# Altium schematic symbol library N-Channel FET.SchLib: 448 symbols (part 4 of 8)
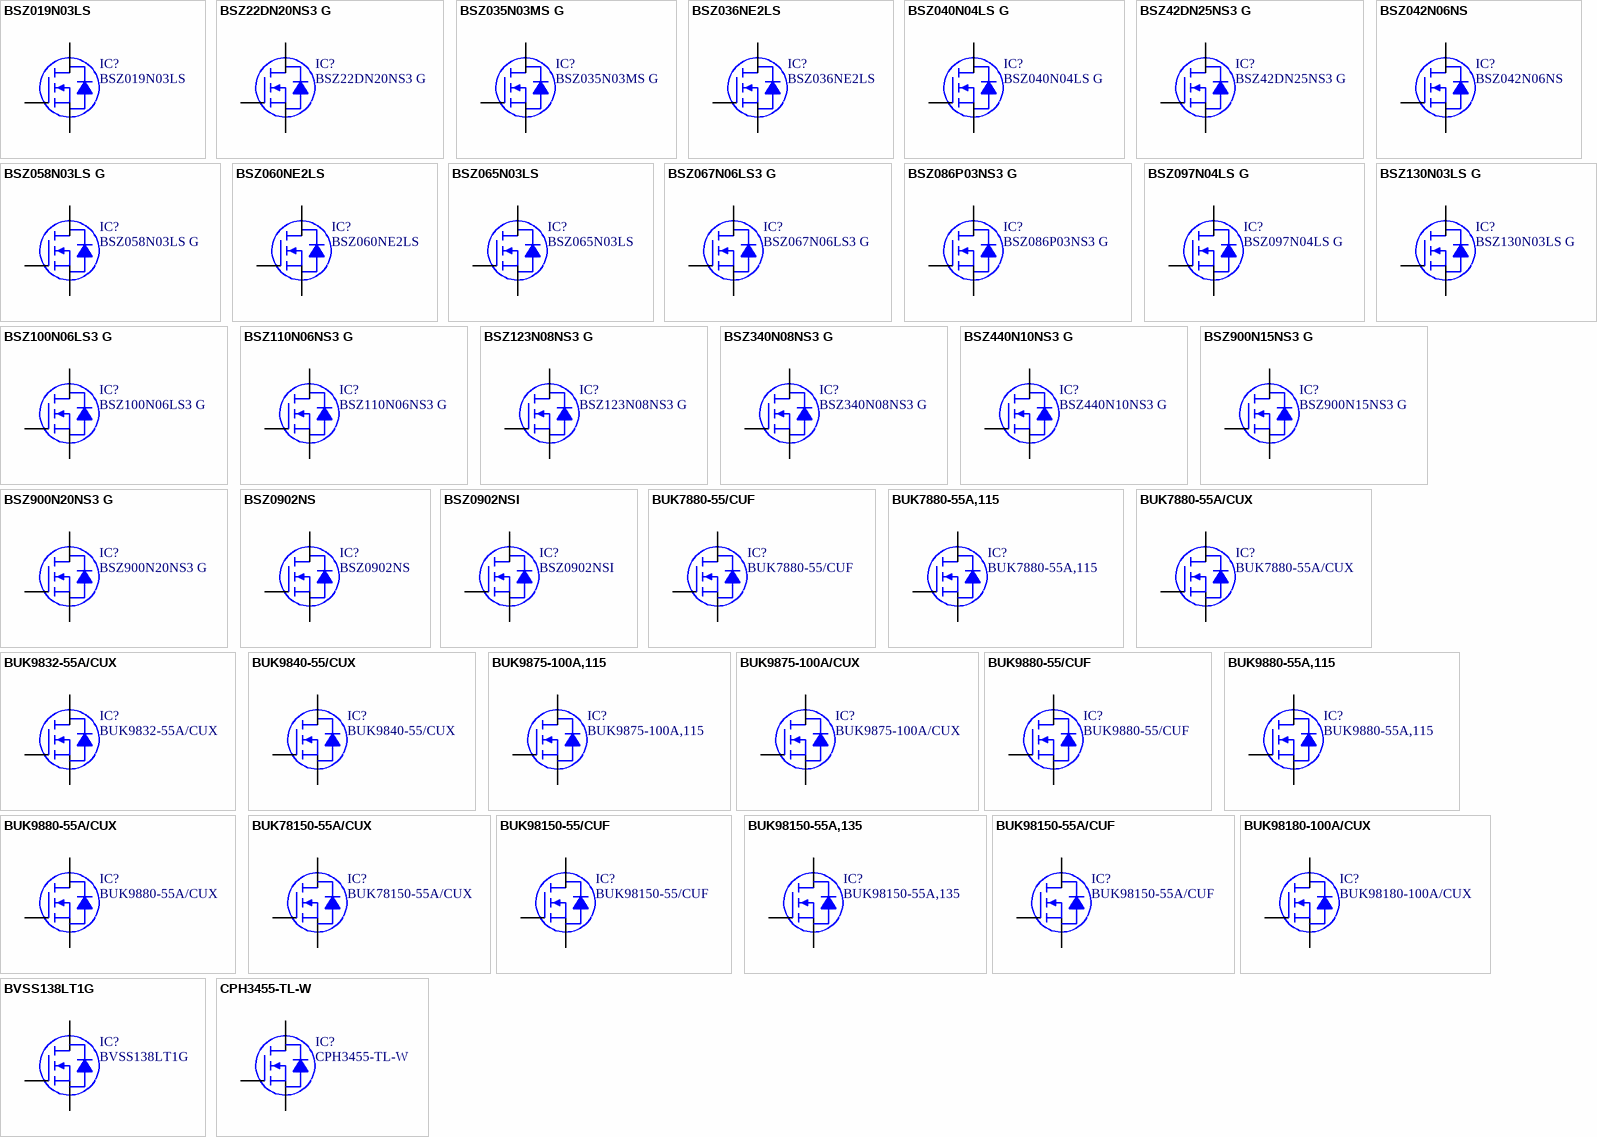
[diagram p14: symbols BSZ019N03LS to CPH3455-TL-W]

## BSZ22DN20NS3 G
designator IC?
MOSFET N-CH 200V 7A 8TSDSON; Manufacturer: Infineon Technologies; Rds On (Max) at Id, Vgs: 225 mOhm @ 3.5A, 10V; Vgs(th) (Max) at Id: 4V @ 13uA; Gate Charge (Qg): 5.6nC @ 10V; Input Capacitance (Ciss) at Vds: 430pF @ 100V; Power - Max: 34W; Current Continuous Drain: 7A (Tc); Part Number: BSZ22DN20NS3 G; PartId: 8122; Supplier 1: Digi-Key; Supplier Part Number 1: BSZ22DN20NS3GTR-ND; ComponentLink1Description: Datasheet; ComponentLink1URL: http://www.infineon.com/dgdl/BSZ22DN20NS3+Rev2.2.pdf?folderId=db3a304325305e6d012596c6ca7b290a&fileId=db3a30432ad629a6012b15ceb1741a7c; ComponentLink2Description: Digi-Key Listing; ComponentLink2URL: http://www.digikey.com/product-detail/en/BSZ22DN20NS3%20G/BSZ22DN20NS3GTR-ND/2527826; Price: 0.4089; Type: MOSFET N-Channel, Metal Oxide; Device Package: 8-PowerTDFN; Drain to Source Voltage (Vdss): 200V; Features: Standard
footprint INFINEON PG-TSDSON-8
pins: 1 S, 2 S, 3 S, 4 G, 5 D, 6 D, 7 D, 8 D

## BSZ035N03MS G
designator IC?
MOSFET N-CH 30V 40A TSDSON-8; Manufacturer: Infineon Technologies; Rds On (Max) at Id, Vgs: 3.5 mOhm @ 20A, 10V; Vgs(th) (Max) at Id: 2V @ 250uA; Gate Charge (Qg): 74nC @ 10V; Input Capacitance (Ciss) at Vds: 5700pF @ 15V; Power - Max: 69W; Current Continuous Drain: 18A (Ta), 40A (Tc); Part Number: BSZ035N03MS G; PartId: 8105; Supplier 1: Digi-Key; Supplier Part Number 1: BSZ035N03MSGINTR-ND; ComponentLink1Description: Datasheet; ComponentLink1URL: http://www.infineon.com/dgdl/BSZ035N03MSG_rev1.4.pdf?folderId=db3a304313d846880113d91d60c500c4&fileId=db3a304313d846880113ddeb998f02e7; ComponentLink2Description: Digi-Key Listing; ComponentLink2URL: http://www.digikey.com/product-detail/en/BSZ035N03MS%20G/BSZ035N03MSGINTR-ND/1785581; Price: 0.3335; Type: MOSFET N-Channel, Metal Oxide; Device Package: 8-PowerTDFN; Drain to Source Voltage (Vdss): 30V; Features: Standard
footprint INFINEON PG-TSDSON-8
pins: 1 S, 2 S, 3 S, 4 G, 5 D, 6 D, 7 D, 8 D

## BSZ036NE2LS
designator IC?
MOSFET N-CH 25V 16A TSDSON-8; Manufacturer: Infineon Technologies; Rds On (Max) at Id, Vgs: 3.6 mOhm @ 20A, 10V; Vgs(th) (Max) at Id: 2V @ 250uA; Gate Charge (Qg): 16nC @ 10V; Input Capacitance (Ciss) at Vds: 1200pF @ 12V; Power - Max: 2.1W; Current Continuous Drain: 16A (Ta), 40A (Tc); Part Number: BSZ036NE2LS; PartId: 8106; Supplier 1: Digi-Key; Supplier Part Number 1: BSZ036NE2LSTR-ND; ComponentLink1Description: Datasheet; ComponentLink1URL: http://www.infineon.com/dgdl/BSZ036NE2LS_Rev+2.1.pdf?folderId=db3a304313b8b5a60113cee8763b02d7&fileId=db3a30432ea425a4012ed92706043869; ComponentLink2Description: Digi-Key Listing; ComponentLink2URL: http://www.digikey.com/product-detail/en/BSZ036NE2LS/BSZ036NE2LSTR-ND/2783242; Price: 0.27; Type: MOSFET N-Channel, Metal Oxide; Device Package: 8-PowerTDFN; Drain to Source Voltage (Vdss): 25V; Features: Standard
footprint INFINEON PG-TSDSON-8
pins: 1 S, 2 S, 3 S, 4 G, 5 D, 6 D, 7 D, 8 D

## BSZ040N04LS G
designator IC?
MOSFET N-CH 40V 40A TSDSON-8; Manufacturer: Infineon Technologies; Rds On (Max) at Id, Vgs: 4 mOhm @ 20A, 10V; Vgs(th) (Max) at Id: 2V @ 36uA; Gate Charge (Qg): 64nC @ 10V; Input Capacitance (Ciss) at Vds: 5100pF @ 20V; Power - Max: 69W; Current Continuous Drain: 18A (Ta), 40A (Tc); Part Number: BSZ040N04LS G; PartId: 8107; Supplier 1: Digi-Key; Supplier Part Number 1: BSZ040N04LSGINTR-ND; ComponentLink1Description: Datasheet; ComponentLink1URL: http://www.infineon.com/dgdl/BSZ040N04LSG_rev1.3.pdf?folderId=db3a3043163797a6011643468e7505a4&fileId=db3a3043163797a6011643b9e30f067b; ComponentLink2Description: Digi-Key Listing; ComponentLink2URL: http://www.digikey.com/product-detail/en/BSZ040N04LS%20G/BSZ040N04LSGINTR-ND/1936386; Price: 0.375; Type: MOSFET N-Channel, Metal Oxide; Device Package: 8-PowerTDFN; Drain to Source Voltage (Vdss): 40V; Features: Logic Level Gate
footprint INFINEON PG-TSDSON-8
pins: 1 S, 2 S, 3 S, 4 G, 5 D, 6 D, 7 D, 8 D

## BSZ42DN25NS3 G
designator IC?
MOSFET N-CH 250V 5A TSDSON-8; Manufacturer: Infineon Technologies; Rds On (Max) at Id, Vgs: 425 mOhm @ 2.5A, 10V; Vgs(th) (Max) at Id: 4V @ 13uA; Gate Charge (Qg): 5.5nC @ 10V; Input Capacitance (Ciss) at Vds: 430pF @ 100V; Power - Max: 33.8W; Current Continuous Drain: 5A (Tc); Part Number: BSZ42DN25NS3 G; PartId: 8124; Supplier 1: Digi-Key; Supplier Part Number 1: BSZ42DN25NS3 GTR-ND; ComponentLink1Description: Datasheet; ComponentLink1URL: http://www.infineon.com/dgdl/BSZ42DN25NS3+Rev2.2.pdf?folderId=db3a304325305e6d012596c6ca7b290a&fileId=db3a30432ad629a6012b15e5a93b1a8b; ComponentLink2Description: Digi-Key Listing; ComponentLink2URL: http://www.digikey.com/product-detail/en/BSZ42DN25NS3%20G/BSZ42DN25NS3%20GTR-ND/2783248; Price: 0.4089; Type: MOSFET N-Channel, Metal Oxide; Device Package: 8-PowerTDFN; Drain to Source Voltage (Vdss): 250V; Features: Standard
footprint INFINEON PG-TSDSON-8
pins: 1 S, 2 S, 3 S, 4 G, 5 D, 6 D, 7 D, 8 D

## BSZ042N06NS
designator IC?
MOSFET N-CH 60V 19A 8TSDSON; Manufacturer: Infineon Technologies; Rds On (Max) at Id, Vgs: 4.2 mOhm @ 20A, 10V; Vgs(th) (Max) at Id: 2.8V @ 36uA; Gate Charge (Qg): 27nC @ 10V; Input Capacitance (Ciss) at Vds: 2000pF @ 30V; Power - Max: 2.1W; Current Continuous Drain: 17A (Ta), 40A (Tc); Part Number: BSZ042N06NS; PartId: 8108; Supplier 1: Digi-Key; Supplier Part Number 1: BSZ042N06NSTR-ND; ComponentLink1Description: Datasheet; ComponentLink1URL: http://www.infineon.com/dgdl/BSZ042N06NS_Rev2.0.pdf?folderId=db3a30431ddc9372011ebafa04517f8b&fileId=db3a3043345a30bc013465d4bf1862fd; ComponentLink2Description: Digi-Key Listing; ComponentLink2URL: http://www.digikey.com/product-detail/en/BSZ042N06NS/BSZ042N06NSTR-ND/3720147; Price: 0.6183; Type: MOSFET N-Channel, Metal Oxide; Device Package: 8-PowerTDFN; Drain to Source Voltage (Vdss): 60V; Features: Standard
footprint INFINEON PG-TSDSON-8
pins: 1 S, 2 S, 3 S, 4 G, 5 D, 6 D, 7 D, 8 D

## BSZ058N03LS G
designator IC?
MOSFET N-CH 30V 40A TSDSON-8; Manufacturer: Infineon Technologies; Rds On (Max) at Id, Vgs: 5.8 mOhm @ 20A, 10V; Vgs(th) (Max) at Id: 2.2V @ 250uA; Gate Charge (Qg): 30nC @ 10V; Input Capacitance (Ciss) at Vds: 2400pF @ 15V; Power - Max: 45W; Current Continuous Drain: 15A (Ta), 40A (Tc); Part Number: BSZ058N03LS G; PartId: 8109; Supplier 1: Digi-Key; Supplier Part Number 1: BSZ058N03LSGINTR-ND; ComponentLink1Description: Datasheet; ComponentLink1URL: http://www.infineon.com/dgdl/BSZ058N03LSG_rev1.1.pdf?folderId=db3a304313b8b5a60113cee8ed2a02db&fileId=db3a304313b8b5a60113d3fa0a7e03f2; ComponentLink2Description: Digi-Key Listing; ComponentLink2URL: http://www.digikey.com/product-detail/en/BSZ058N03LS%20G/BSZ058N03LSGINTR-ND/1785584; Price: 0.243; Type: MOSFET N-Channel, Metal Oxide; Device Package: 8-PowerTDFN; Drain to Source Voltage (Vdss): 30V; Features: Logic Level Gate
footprint INFINEON PG-TSDSON-8
pins: 1 S, 2 S, 3 S, 4 G, 5 D, 6 D, 7 D, 8 D

## BSZ060NE2LS
designator IC?
MOSFET N-CH 25V 12A TSDSON-8; Manufacturer: Infineon Technologies; Rds On (Max) at Id, Vgs: 6 mOhm @ 20A, 10V; Vgs(th) (Max) at Id: 2V @ 250uA; Gate Charge (Qg): 9.1nC @ 10V; Input Capacitance (Ciss) at Vds: 670pF @ 12V; Power - Max: 2.1W; Current Continuous Drain: 12A (Ta), 40A (Tc); Part Number: BSZ060NE2LS; PartId: 8110; Supplier 1: Digi-Key; Supplier Part Number 1: BSZ060NE2LSTR-ND; ComponentLink1Description: Datasheet; ComponentLink1URL: http://www.infineon.com/dgdl/BSZ060NE2LS_Rev+2.1.pdf?folderId=db3a304313b8b5a60113cee8763b02d7&fileId=db3a30432ea425a4012ec927cb360e1f; ComponentLink2Description: Digi-Key Listing; ComponentLink2URL: http://www.digikey.com/product-detail/en/BSZ060NE2LS/BSZ060NE2LSTR-ND/2783243; Price: 0.2092; Type: MOSFET N-Channel, Metal Oxide; Device Package: 8-PowerTDFN; Drain to Source Voltage (Vdss): 25V; Features: Standard
footprint INFINEON PG-TSDSON-8
pins: 1 S, 2 S, 3 S, 4 G, 5 D, 6 D, 7 D, 8 D

## BSZ065N03LS
designator IC?
MOSFET N-CH 30V 12A TSDSON-8; Manufacturer: Infineon Technologies; Rds On (Max) at Id, Vgs: 6.5 mOhm @ 20A, 10V; Vgs(th) (Max) at Id: 2V @ 250uA; Gate Charge (Qg): 10nC @ 10V; Input Capacitance (Ciss) at Vds: 670pF @ 15V; Power - Max: 2.1W; Current Continuous Drain: 12A (Ta), 40A (Tc); Part Number: BSZ065N03LS; PartId: 8111; Supplier 1: Digi-Key; Supplier Part Number 1: BSZ065N03LSTR-ND; ComponentLink1Description: Datasheet; ComponentLink1URL: http://www.infineon.com/dgdl/BSZ065N03LS_Rev2.1_.pdf?folderId=db3a304313b8b5a60113cee8763b02d7&fileId=db3a30432ea425a4012ed7fbc0b23834; ComponentLink2Description: Digi-Key Listing; ComponentLink2URL: http://www.digikey.com/product-detail/en/BSZ065N03LS/BSZ065N03LSTR-ND/2783244; Price: 0.216; Type: MOSFET N-Channel, Metal Oxide; Device Package: 8-PowerTDFN; Drain to Source Voltage (Vdss): 30V; Features: Standard
footprint INFINEON PG-TSDSON-8
pins: 1 S, 2 S, 3 S, 4 G, 5 D, 6 D, 7 D, 8 D

## BSZ067N06LS3 G
designator IC?
MOSFET N-CH 60V 20A TSDSON-8; Manufacturer: Infineon Technologies; Rds On (Max) at Id, Vgs: 6.7 mOhm @ 20A, 10V; Vgs(th) (Max) at Id: 2.2V @ 35uA; Gate Charge (Qg): 67nC @ 10V; Input Capacitance (Ciss) at Vds: 5100pF @ 30V; Power - Max: 69W; Current Continuous Drain: 14A (Ta), 20A (Tc); Part Number: BSZ067N06LS3 G; PartId: 8112; Supplier 1: Digi-Key; Supplier Part Number 1: BSZ067N06LS3GINTR-ND; ComponentLink1Description: Datasheet; ComponentLink1URL: http://www.infineon.com/dgdl/BSZ067N06LS3_rev2.0.pdf?folderId=db3a30431ddc9372011ebafa04517f8b&fileId=db3a30431ddc9372011ebb0f41537ff6; ComponentLink2Description: Digi-Key Listing; ComponentLink2URL: http://www.digikey.com/product-detail/en/BSZ067N06LS3%20G/BSZ067N06LS3GINTR-ND/1980817; Price: 0.3978; Type: MOSFET N-Channel, Metal Oxide; Device Package: 8-PowerVDFN; Drain to Source Voltage (Vdss): 60V; Features: Logic Level Gate
footprint INFINEON PG-TSDSON-8
pins: 1 S, 2 S, 3 S, 4 G, 5 D, 6 D, 7 D, 8 D

## BSZ086P03NS3 G
designator IC?
MOSFET P-CH 30V 40A TSDSON-8; Manufacturer: Infineon Technologies; Rds On (Max) at Id, Vgs: 8.6 mOhm @ 20A, 10V; Vgs(th) (Max) at Id: 1.9V @ 105uA; Gate Charge (Qg): 57.5nC @ 10V; Input Capacitance (Ciss) at Vds: 4785pF @ 15V; Power - Max: 69W; Current Continuous Drain: 13.5A (Ta), 40A (Tc); Part Number: BSZ086P03NS3 G; PartId: 8113; Supplier 1: Digi-Key; Supplier Part Number 1: BSZ086P03NS3 GTR-ND; ComponentLink1Description: Datasheet; ComponentLink1URL: http://www.infineon.com/dgdl/BSZ086P03NS3+G_2.0.pdf?folderId=db3a304314dca38901154a7313d21a66&fileId=db3a30431ff9881501203d3a5e7d17a9; ComponentLink2Description: Digi-Key Listing; ComponentLink2URL: http://www.digikey.com/product-detail/en/BSZ086P03NS3%20G/BSZ086P03NS3%20GTR-ND/2080736; Price: 0.3001; Type: MOSFET P-Channel, Metal Oxide; Device Package: 8-PowerTDFN; Drain to Source Voltage (Vdss): 30V; Features: Standard
footprint INFINEON PG-TSDSON-8
pins: 1 S, 2 S, 3 S, 4 G, 5 D, 6 D, 7 D, 8 D

## BSZ097N04LS G
designator IC?
MOSFET N-CH 40V 40A TSDSON-8; Manufacturer: Infineon Technologies; Rds On (Max) at Id, Vgs: 9.7 mOhm @ 20A, 10V; Vgs(th) (Max) at Id: 2V @ 14uA; Gate Charge (Qg): 24nC @ 10V; Input Capacitance (Ciss) at Vds: 1900pF @ 20V; Power - Max: 35W; Current Continuous Drain: 12A (Ta), 40A (Tc); Part Number: BSZ097N04LS G; PartId: 8116; Supplier 1: Digi-Key; Supplier Part Number 1: BSZ097N04LSGINTR-ND; ComponentLink1Description: Datasheet; ComponentLink1URL: http://www.infineon.com/dgdl/BSZ097N04LSG_rev1.1.pdf?folderId=db3a3043163797a6011643468e7505a4&fileId=db3a3043163797a6011643be1d53068c; ComponentLink2Description: Digi-Key Listing; ComponentLink2URL: http://www.digikey.com/product-detail/en/BSZ097N04LS%20G/BSZ097N04LSGINTR-ND/1936387; Price: 0.216; Type: MOSFET N-Channel, Metal Oxide; Device Package: 8-PowerTDFN; Drain to Source Voltage (Vdss): 40V; Features: Logic Level Gate
footprint INFINEON PG-TSDSON-8
pins: 1 S, 2 S, 3 S, 4 G, 5 D, 6 D, 7 D, 8 D

## BSZ100N06LS3 G
designator IC?
MOSFET N-CH 60V 20A TSDSON-8; Manufacturer: Infineon Technologies; Rds On (Max) at Id, Vgs: 10 mOhm @ 20A, 10V; Vgs(th) (Max) at Id: 2.2V @ 23uA; Gate Charge (Qg): 45nC @ 10V; Input Capacitance (Ciss) at Vds: 3500pF @ 30V; Power - Max: 50W; Current Continuous Drain: 11A (Ta), 20A (Tc); Part Number: BSZ100N06LS3 G; PartId: 8117; Supplier 1: Digi-Key; Supplier Part Number 1: BSZ100N06LS3GINTR-ND; ComponentLink1Description: Datasheet; ComponentLink1URL: http://www.infineon.com/dgdl/BSZ100N06LS3_rev2.0.pdf?folderId=db3a30431ddc9372011ebafa04517f8b&fileId=db3a30431ddc9372011ebb132c97000a; ComponentLink2Description: Digi-Key Listing; ComponentLink2URL: http://www.digikey.com/product-detail/en/BSZ100N06LS3%20G/BSZ100N06LS3GINTR-ND/1936392; Price: 0.33; Type: MOSFET N-Channel, Metal Oxide; Device Package: 8-PowerVDFN; Drain to Source Voltage (Vdss): 60V; Features: Logic Level Gate
footprint INFINEON PG-TSDSON-8
pins: 1 S, 2 S, 3 S, 4 G, 5 D, 6 D, 7 D, 8 D

## BSZ110N06NS3 G
designator IC?
MOSFET N-CH 60V 20A TSDSON-8; Manufacturer: Infineon Technologies; Rds On (Max) at Id, Vgs: 11 mOhm @ 20A, 10V; Vgs(th) (Max) at Id: 4V @ 23uA; Gate Charge (Qg): 33nC @ 10V; Input Capacitance (Ciss) at Vds: 2700pF @ 30V; Power - Max: 50W; Current Continuous Drain: 20A (Tc); Part Number: BSZ110N06NS3 G; PartId: 8118; Supplier 1: Digi-Key; Supplier Part Number 1: BSZ110N06NS3GINTR-ND; ComponentLink1Description: Datasheet; ComponentLink1URL: http://www.infineon.com/dgdl/BSZ110N06NS3_Rev2.0.pdf?folderId=db3a30431ddc9372011ebafa04517f8b&fileId=db3a30431ddc9372011ebb15d4e8001a; ComponentLink2Description: Digi-Key Listing; ComponentLink2URL: http://www.digikey.com/product-detail/en/BSZ110N06NS3%20G/BSZ110N06NS3GINTR-ND/1936394; Price: 0.2295; Type: MOSFET N-Channel, Metal Oxide; Device Package: 8-PowerVDFN; Drain to Source Voltage (Vdss): 60V; Features: Standard
footprint INFINEON PG-TSDSON-8
pins: 1 S, 2 S, 3 S, 4 G, 5 D, 6 D, 7 D, 8 D

## BSZ123N08NS3 G
designator IC?
MOSFET N-CH 80V 40A TSDSON-8; Manufacturer: Infineon Technologies; Rds On (Max) at Id, Vgs: 12.3 mOhm @ 20A, 10V; Vgs(th) (Max) at Id: 3.5V @ 33uA; Gate Charge (Qg): 25nC @ 10V; Input Capacitance (Ciss) at Vds: 1700pF @ 40V; Power - Max: 66W; Current Continuous Drain: 10A (Ta), 40A (Tc); Part Number: BSZ123N08NS3 G; PartId: 8119; Supplier 1: Digi-Key; Supplier Part Number 1: BSZ123N08NS3GINTR-ND; ComponentLink1Description: Datasheet; ComponentLink1URL: http://www.infineon.com/dgdl/BSZ123N08NS3G_rev2.0.pdf?folderId=db3a304313b8b5a60113cee8763b02d7&fileId=db3a30431ddc9372011e5ec96fdc0a00; ComponentLink2Description: Digi-Key Listing; ComponentLink2URL: http://www.digikey.com/product-detail/en/BSZ123N08NS3%20G/BSZ123N08NS3GINTR-ND/1936395; Price: 0.41; Type: MOSFET N-Channel, Metal Oxide; Device Package: 8-PowerVDFN; Drain to Source Voltage (Vdss): 80V; Features: Standard
footprint INFINEON PG-TSDSON-8
pins: 1 S, 2 S, 3 S, 4 G, 5 D, 6 D, 7 D, 8 D

## BSZ130N03LS G
designator IC?
MOSFET N-CH 30V 35A TSDSON-8; Manufacturer: Infineon Technologies; Rds On (Max) at Id, Vgs: 13 mOhm @ 20A, 10V; Vgs(th) (Max) at Id: 2.2V @ 250uA; Gate Charge (Qg): 13nC @ 10V; Input Capacitance (Ciss) at Vds: 970pF @ 15V; Power - Max: 25W; Current Continuous Drain: 10A (Ta), 35A (Tc); Part Number: BSZ130N03LS G; PartId: 8121; Supplier 1: Digi-Key; Supplier Part Number 1: BSZ130N03LSGINTR-ND; ComponentLink1Description: Datasheet; ComponentLink1URL: http://www.infineon.com/dgdl/BSZ130N03LS_rev1.1.pdf?folderId=db3a304313b8b5a60113cee8ed2a02db&fileId=db3a304313b8b5a60113d4035f8203fc; ComponentLink2Description: Digi-Key Listing; ComponentLink2URL: http://www.digikey.com/product-detail/en/BSZ130N03LS%20G/BSZ130N03LSGINTR-ND/1785590; Price: 0.1972; Type: MOSFET N-Channel, Metal Oxide; Device Package: 8-PowerTDFN; Drain to Source Voltage (Vdss): 30V; Features: Logic Level Gate
footprint INFINEON PG-TSDSON-8
pins: 1 S, 2 S, 3 S, 4 G, 5 D, 6 D, 7 D, 8 D

## BSZ340N08NS3 G
designator IC?
MOSFET N-CH 80V 23A TSDSON-8; Manufacturer: Infineon Technologies; Rds On (Max) at Id, Vgs: 34 mOhm @ 12A, 10V; Vgs(th) (Max) at Id: 3.5V @ 12uA; Gate Charge (Qg): 9.1nC @ 10V; Input Capacitance (Ciss) at Vds: 630pF @ 40V; Power - Max: 32W; Current Continuous Drain: 6A (Ta), 23A (Tc); Part Number: BSZ340N08NS3 G; PartId: 8123; Supplier 1: Digi-Key; Supplier Part Number 1: BSZ340N08NS3GINTR-ND; ComponentLink1Description: Datasheet; ComponentLink1URL: http://www.infineon.com/dgdl/Infineon-BSZ340N08NS3G-DS-v02_03-en.pdf?fileId=db3a30431ff9881501206626660b6c72; ComponentLink2Description: Digi-Key Listing; ComponentLink2URL: http://www.digikey.com/product-detail/en/BSZ340N08NS3%20G/BSZ340N08NS3GINTR-ND/1936396; Price: 0.1885; Type: MOSFET N-Channel, Metal Oxide; Device Package: 8-PowerTDFN; Drain to Source Voltage (Vdss): 80V; Features: Standard
footprint INFINEON PG-TSDSON-8
pins: 1 S, 2 S, 3 S, 4 G, 5 D, 6 D, 7 D, 8 D

## BSZ440N10NS3 G
designator IC?
MOSFET N-CH 100V 18A TSDSON-8; Manufacturer: Infineon Technologies; Rds On (Max) at Id, Vgs: 44 mOhm @ 12A, 10V; Vgs(th) (Max) at Id: 2.7V @ 12uA; Gate Charge (Qg): 9.1nC @ 10V; Input Capacitance (Ciss) at Vds: 640pF @ 50V; Power - Max: 29W; Current Continuous Drain: 5.3A (Ta), 18A (Tc); Part Number: BSZ440N10NS3 G; PartId: 8125; Supplier 1: Digi-Key; Supplier Part Number 1: BSZ440N10NS3 GINTR-ND; ComponentLink1Description: Datasheet; ComponentLink1URL: http://www.infineon.com/dgdl/BSZ440N10NS3+Rev1.0.pdf?folderId=db3a304313b8b5a60113cee8763b02d7&fileId=db3a304320896aa20120c32dbf312354; ComponentLink2Description: Digi-Key Listing; ComponentLink2URL: http://www.digikey.com/product-detail/en/BSZ440N10NS3%20G/BSZ440N10NS3%20GINTR-ND/2080739; Price: 0.228; Type: MOSFET N-Channel, Metal Oxide; Device Package: 8-PowerTDFN; Drain to Source Voltage (Vdss): 100V; Features: Standard
footprint INFINEON PG-TSDSON-8
pins: 1 S, 2 S, 3 S, 4 G, 5 D, 6 D, 7 D, 8 D

## BSZ900N15NS3 G
designator IC?
MOSFET N-CH 150V 13A TDSON-8; Manufacturer: Infineon Technologies; Rds On (Max) at Id, Vgs: 90 mOhm @ 10A, 10V; Vgs(th) (Max) at Id: 4V @ 20uA; Gate Charge (Qg): 7nC @ 10V; Input Capacitance (Ciss) at Vds: 510pF @ 75V; Power - Max: 38W; Current Continuous Drain: 13A (Tc); Part Number: BSZ900N15NS3 G; PartId: 8126; Supplier 1: Digi-Key; Supplier Part Number 1: BSZ900N15NS3 GTR-ND; ComponentLink1Description: Datasheet; ComponentLink1URL: http://www.infineon.com/dgdl/BSZ900N15NS3+Rev2.1.pdf?folderId=db3a304326623792012669f6bee2224b&fileId=db3a304326623792012669f7decc224c; ComponentLink2Description: Digi-Key Listing; ComponentLink2URL: http://www.digikey.com/product-detail/en/BSZ900N15NS3%20G/BSZ900N15NS3%20GTR-ND/2337891; Price: 0.3991; Type: MOSFET N-Channel, Metal Oxide; Device Package: 8-PowerTDFN; Drain to Source Voltage (Vdss): 150V; Features: Standard
footprint INFINEON PG-TSDSON-8
pins: 1 S, 2 S, 3 S, 4 G, 5 D, 6 D, 7 D, 8 D

## BSZ900N20NS3 G
designator IC?
MOSFET N-CH 200V 15.2A 8TSDSON; Manufacturer: Infineon Technologies; Rds On (Max) at Id, Vgs: 90 mOhm @ 7.6A, 10V; Vgs(th) (Max) at Id: 4V @ 30uA; Gate Charge (Qg): 11.6nC @ 10V; Input Capacitance (Ciss) at Vds: 920pF @ 100V; Power - Max: 62.5W; Current Continuous Drain: 15.2A (Tc); Part Number: BSZ900N20NS3 G; PartId: 8127; Supplier 1: Digi-Key; Supplier Part Number 1: BSZ900N20NS3GTR-ND; ComponentLink1Description: Datasheet; ComponentLink1URL: http://www.infineon.com/dgdl/BSZ900N20NS3+Rev2.1.pdf?folderId=db3a304325305e6d012596c6ca7b290a&fileId=db3a30432ad629a6012b15f1be561a9b; ComponentLink2Description: Digi-Key Listing; ComponentLink2URL: http://www.digikey.com/product-detail/en/BSZ900N20NS3%20G/BSZ900N20NS3GTR-ND/2527827; Price: 0.6402; Type: MOSFET N-Channel, Metal Oxide; Device Package: 8-PowerTDFN; Drain to Source Voltage (Vdss): 200V; Features: Standard
footprint INFINEON PG-TSDSON-8
pins: 1 S, 2 S, 3 S, 4 G, 5 D, 6 D, 7 D, 8 D

## BSZ0902NS
designator IC?
MOSFET N-CH 30V 40A TSDSON-8; Manufacturer: Infineon Technologies; Rds On (Max) at Id, Vgs: 2.6 mOhm @ 20A, 10V; Vgs(th) (Max) at Id: 2V @ 250uA; Gate Charge (Qg): 26nC @ 10V; Input Capacitance (Ciss) at Vds: 1700pF @ 15V; Power - Max: 2.1W; Current Continuous Drain: 19A (Ta), 40A (Tc); Part Number: BSZ0902NS; PartId: 8114; Supplier 1: Digi-Key; Supplier Part Number 1: BSZ0902NSTR-ND; ComponentLink1Description: Datasheet; ComponentLink1URL: http://www.infineon.com/dgdl/BSZ0902NS_Rev+2.1.pdf?folderId=db3a304313b8b5a60113cee8763b02d7&fileId=db3a30432f0d175c012f25d963971d2f; ComponentLink2Description: Digi-Key Listing; ComponentLink2URL: http://www.digikey.com/product-detail/en/BSZ0902NS/BSZ0902NSTR-ND/2783245; Price: 0.2835; Type: MOSFET N-Channel, Metal Oxide; Device Package: 8-PowerTDFN; Drain to Source Voltage (Vdss): 30V; Features: Standard
footprint INFINEON PG-TSDSON-8
pins: 1 S, 2 S, 3 S, 4 G, 5 D, 6 D, 7 D, 8 D

## BSZ0902NSI
designator IC?
MOSFET N-CH 30V 21A TSDSON-8; Manufacturer: Infineon Technologies; Rds On (Max) at Id, Vgs: 2.8 mOhm @ 30A, 10V; Vgs(th) (Max) at Id: 2V @ 250uA; Gate Charge (Qg): 24nC @ 10V; Input Capacitance (Ciss) at Vds: 1500pF @ 15V; Power - Max: 2.5W; Current Continuous Drain: 21A (Ta), 40A (Tc); Part Number: BSZ0902NSI; PartId: 8115; Supplier 1: Digi-Key; Supplier Part Number 1: BSZ0902NSITR-ND; ComponentLink1Description: Datasheet; ComponentLink1URL: http://www.infineon.com/dgdl/BSZ0902NSI_Rev+2.0.pdf?folderId=db3a304313b8b5a60113cee8763b02d7&fileId=db3a30433072cd8f01308e38cc9c33f9; ComponentLink2Description: Digi-Key Listing; ComponentLink2URL: http://www.digikey.com/product-detail/en/BSZ0902NSI/BSZ0902NSITR-ND/2618250; Price: 0.328; Type: MOSFET N-Channel, Metal Oxide; Device Package: 8-PowerTDFN; Drain to Source Voltage (Vdss): 30V; Features: Standard
footprint INFINEON PG-TSDSON-8
pins: 1 S, 2 S, 3 S, 4 G, 5 D, 6 D, 7 D, 8 D

## BUK7880-55/CUF
designator IC?
MOSFET N-CH 55V 7.5A SOT223; Manufacturer: NXP USA Inc.; Rds On (Max) at Id, Vgs: 80 mOhm @ 5A, 10V; Vgs(th) (Max) at Id: 16V; Input Capacitance (Ciss) at Vds: 500pF @ 25V; Current Continuous Drain: 3.5A (Ta); Part Number: BUK7880-55/CUF; PartId: 29640; Supplier 1: Digi-Key; Supplier Part Number 1: 568-12759-1-ND; ComponentLink1Description: Datasheet; ComponentLink1URL: http://www.nxp.com/documents/data_sheet/BUK7880-55.pdf; ComponentLink2Description: Digi-Key Listing; ComponentLink2URL: https://www.digikey.com/product-detail/en/nxp-usa-inc/BUK7880-55-CUF/568-12759-1-ND/5451981; Price: 0.62; Type: N-Channel; Device Package: TO-261-4, TO-261AA; Drain to Source Voltage (Vdss): 55V
footprint NXP SOT-223
pins: 1 G, 2 D, 3 S, 4 D

## BUK7880-55A,115
designator IC?
MOSFET N-CH 55V 7A SOT-223; Manufacturer: NXP Semiconductors; Rds On (Max) at Id, Vgs: 80 mOhm @ 10A, 10V; Vgs(th) (Max) at Id: 4V @ 1mA; Gate Charge (Qg): 12nC @ 10V; Input Capacitance (Ciss) at Vds: 500pF @ 25V; Power - Max: 8W; Current Continuous Drain: 7A (Tc); Part Number: BUK7880-55A,115; PartId: 8093; Supplier 1: Digi-Key; Supplier Part Number 1: 568-9712-2-ND; ComponentLink1Description: Datasheet; ComponentLink1URL: http://www.nxp.com/documents/data_sheet/BUK7880-55A.pdf; ComponentLink2Description: Digi-Key Listing; ComponentLink2URL: http://www.digikey.com/product-detail/en/BUK7880-55A,115/568-9712-2-ND/2119453; Price: 0.2481; Type: MOSFET N-Channel, Metal Oxide; Device Package: TO-261-4, TO-261AA; Drain to Source Voltage (Vdss): 55V; Features: Standard
footprint NXP SOT-223
pins: 1 G, 2 D, 3 S, 4 D

## BUK7880-55A/CUX
designator IC?
MOSFET N-CH 55V 7A SOT223; Manufacturer: NXP Semiconductors; Rds On (Max) at Id, Vgs: 80 mOhm @ 10A, 10V; Vgs(th) (Max) at Id: 4V @ 1mA; Gate Charge (Qg): 12nC @ 10V; Input Capacitance (Ciss) at Vds: 500pF @ 25V; Power - Max: 8W; Current Continuous Drain: 7A (Tc); Part Number: BUK7880-55A/CUX; PartId: 8094; Supplier 1: Digi-Key; Supplier Part Number 1: 568-12490-2-ND; ComponentLink1Description: Datasheet; ComponentLink1URL: http://www.nxp.com/documents/data_sheet/BUK7880-55A.pdf; ComponentLink2Description: Digi-Key Listing; ComponentLink2URL: http://www.digikey.com/product-detail/en/BUK7880-55A%2FCUX/568-12490-2-ND/5361176; Price: 0.2481; Type: MOSFET N-Channel, Metal Oxide; Device Package: TO-261-4, TO-261AA; Drain to Source Voltage (Vdss): 55V; Features: Standard
footprint NXP SOT-223
pins: 1 G, 2 D, 3 S, 4 D

## BUK9832-55A/CUX
designator IC?
MOSFET N-CH 55V 12A SOT223; Manufacturer: NXP Semiconductors; Rds On (Max) at Id, Vgs: 29 mOhm @ 8A, 10V; Vgs(th) (Max) at Id: 2V @ 1mA; Input Capacitance (Ciss) at Vds: 1594pF @ 25V; Power - Max: 8W; Current Continuous Drain: 12A (Tc); Part Number: BUK9832-55A/CUX; PartId: 8099; Supplier 1: Digi-Key; Supplier Part Number 1: 568-12494-2-ND; ComponentLink1Description: Datasheet; ComponentLink1URL: http://www.nxp.com/documents/data_sheet/BUK9832-55A.pdf; ComponentLink2Description: Digi-Key Listing; ComponentLink2URL: http://www.digikey.com/product-detail/en/BUK9832-55A%2FCUX/568-12494-2-ND/5361180; Price: 0.3748; Type: MOSFET N-Channel, Metal Oxide; Device Package: TO-261-4, TO-261AA; Gate Charge (Qg): -; Drain to Source Voltage (Vdss): 55V; Features: Logic Level Gate
footprint NXP SOT-223
pins: 1 G, 2 D, 3 S, 4 D

## BUK9840-55/CUX
designator IC?
MOSFET N-CH 55V 5A SOT223; Manufacturer: NXP Semiconductors; Rds On (Max) at Id, Vgs: 40 mOhm @ 5A, 5V; Vgs(th) (Max) at Id: 2V @ 1mA; Input Capacitance (Ciss) at Vds: 1400pF @ 25V; Power - Max: 1.8W; Current Continuous Drain: 5A (Ta), 10.7A (Tc); Part Number: BUK9840-55/CUX; PartId: 8100; Supplier 1: Digi-Key; Supplier Part Number 1: 568-12495-2-ND; ComponentLink1Description: Datasheet; ComponentLink1URL: http://www.nxp.com/documents/data_sheet/BUK9840-55.pdf; ComponentLink2Description: Digi-Key Listing; ComponentLink2URL: http://www.digikey.com/product-detail/en/BUK9840-55%2FCUX/568-12495-2-ND/5361181; Price: 0.4272; Type: MOSFET N-Channel, Metal Oxide; Device Package: TO-261-4, TO-261AA; Gate Charge (Qg): -; Drain to Source Voltage (Vdss): 55V; Features: Logic Level Gate
footprint NXP SOT-223
pins: 1 G, 2 D, 3 S, 4 D

## BUK9875-100A,115
designator IC?
MOSFET N-CH 100V 7A SOT-223; Manufacturer: NXP Semiconductors; Rds On (Max) at Id, Vgs: 72 mOhm @ 8A, 10V; Vgs(th) (Max) at Id: 2V @ 1mA; Input Capacitance (Ciss) at Vds: 1690pF @ 25V; Power - Max: 8W; Current Continuous Drain: 7A (Tc); Part Number: BUK9875-100A,115; PartId: 8097; Supplier 1: Digi-Key; Supplier Part Number 1: 568-8033-2-ND; ComponentLink1Description: Datasheet; ComponentLink1URL: http://www.nxp.com/documents/data_sheet/BUK9875-100A.pdf; ComponentLink2Description: Digi-Key Listing; ComponentLink2URL: http://www.digikey.com/product-detail/en/BUK9875-100A,115/568-8033-2-ND/1163637; Price: 0.367; Type: MOSFET N-Channel, Metal Oxide; Device Package: TO-261-4, TO-261AA; Gate Charge (Qg): -; Drain to Source Voltage (Vdss): 100V; Features: Logic Level Gate
footprint NXP SOT-223
pins: 1 G, 2 D, 3 S, 4 D

## BUK9875-100A/CUX
designator IC?
MOSFET N-CH 100V 7A SOT223; Manufacturer: NXP Semiconductors; Rds On (Max) at Id, Vgs: 72 mOhm @ 8A, 10V; Vgs(th) (Max) at Id: 2V @ 1mA; Input Capacitance (Ciss) at Vds: 1690pF @ 25V; Power - Max: 8W; Current Continuous Drain: 7A (Tc); Part Number: BUK9875-100A/CUX; PartId: 8098; Supplier 1: Digi-Key; Supplier Part Number 1: 568-12496-2-ND; ComponentLink1Description: Datasheet; ComponentLink1URL: http://www.nxp.com/documents/data_sheet/BUK9875-100A.pdf; ComponentLink2Description: Digi-Key Listing; ComponentLink2URL: http://www.digikey.com/product-detail/en/BUK9875-100A%2FCUX/568-12496-2-ND/5361182; Price: 0.367; Type: MOSFET N-Channel, Metal Oxide; Device Package: TO-261-4, TO-261AA; Gate Charge (Qg): -; Drain to Source Voltage (Vdss): 100V; Features: Logic Level Gate
footprint NXP SOT-223
pins: 1 G, 2 D, 3 S, 4 D

## BUK9880-55/CUF
designator IC?
MOSFET N-CH 55V 7.5A SOT223; Manufacturer: NXP USA Inc.; Rds On (Max) at Id, Vgs: 80 mOhm @ 5A, 5V; Vgs(th) (Max) at Id: 10V; Input Capacitance (Ciss) at Vds: 650pF @ 25V; Current Continuous Drain: 7.5A (Tc); Part Number: BUK9880-55/CUF; PartId: 29641; Supplier 1: Digi-Key; Supplier Part Number 1: 568-12497-1-ND; ComponentLink1Description: Datasheet; ComponentLink1URL: http://www.nxp.com/documents/data_sheet/BUK9880-55.pdf; ComponentLink2Description: Digi-Key Listing; ComponentLink2URL: https://www.digikey.com/product-detail/en/nxp-usa-inc/BUK9880-55-CUF/568-12497-1-ND/5361199; Price: 0.69; Type: N-Channel; Device Package: TO-261-4, TO-261AA; Drain to Source Voltage (Vdss): 55V
footprint NXP SOT-223
pins: 1 G, 2 D, 3 S, 4 D

## BUK9880-55A,115
designator IC?
MOSFET N-CH 55V 7A SOT223; Manufacturer: NXP Semiconductors; Rds On (Max) at Id, Vgs: 73 mOhm @ 8A, 10V; Vgs(th) (Max) at Id: 2V @ 1mA; Gate Charge (Qg): 11nC @ 5V; Input Capacitance (Ciss) at Vds: 584pF @ 25V; Power - Max: 8W; Current Continuous Drain: 7A (Tc); Part Number: BUK9880-55A,115; PartId: 8091; Supplier 1: Digi-Key; Supplier Part Number 1: 568-9715-2-ND; ComponentLink1Description: Datasheet; ComponentLink1URL: http://www.nxp.com/documents/data_sheet/BUK9880-55A.pdf; ComponentLink2Description: Digi-Key Listing; ComponentLink2URL: http://www.digikey.com/product-detail/en/BUK9880-55A,115/568-9715-2-ND/1155361; Price: 0.247; Type: MOSFET N-Channel, Metal Oxide; Device Package: TO-261-4, TO-261AA; Drain to Source Voltage (Vdss): 55V; Features: Logic Level Gate
footprint NXP SOT-223
pins: 1 G, 2 D, 3 S, 4 D

## BUK9880-55A/CUX
designator IC?
MOSFET N-CH 55V 7A SOT223; Manufacturer: NXP Semiconductors; Rds On (Max) at Id, Vgs: 73 mOhm @ 8A, 10V; Vgs(th) (Max) at Id: 2V @ 1mA; Gate Charge (Qg): 11nC @ 5V; Input Capacitance (Ciss) at Vds: 584pF @ 25V; Power - Max: 8W; Current Continuous Drain: 7A (Tc); Part Number: BUK9880-55A/CUX; PartId: 8092; Supplier 1: Digi-Key; Supplier Part Number 1: 568-12498-2-ND; ComponentLink1Description: Datasheet; ComponentLink1URL: http://www.nxp.com/documents/data_sheet/BUK9880-55A.pdf; ComponentLink2Description: Digi-Key Listing; ComponentLink2URL: http://www.digikey.com/product-detail/en/BUK9880-55A%2FCUX/568-12498-2-ND/5361184; Price: 0.247; Type: MOSFET N-Channel, Metal Oxide; Device Package: TO-261-4, TO-261AA; Drain to Source Voltage (Vdss): 55V; Features: Logic Level Gate
footprint NXP SOT-223
pins: 1 G, 2 D, 3 S, 4 D

## BUK78150-55A/CUX
designator IC?
MOSFET N-CH 55V 5.5A SOT223; Manufacturer: NXP Semiconductors; Rds On (Max) at Id, Vgs: 150 mOhm @ 5A, 10V; Vgs(th) (Max) at Id: 4V @ 1mA; Input Capacitance (Ciss) at Vds: 230pF @ 25V; Power - Max: 8W; Current Continuous Drain: 5.5A (Tc); Part Number: BUK78150-55A/CUX; PartId: 8089; Supplier 1: Digi-Key; Supplier Part Number 1: 568-12489-2-ND; ComponentLink1Description: Datasheet; ComponentLink1URL: http://www.nxp.com/documents/data_sheet/BUK78150-55A.pdf; ComponentLink2Description: Digi-Key Listing; ComponentLink2URL: http://www.digikey.com/product-detail/en/BUK78150-55A%2FCUX/568-12489-2-ND/5361175; Price: 0.1895; Type: MOSFET N-Channel, Metal Oxide; Device Package: TO-261-4, TO-261AA; Gate Charge (Qg): -; Drain to Source Voltage (Vdss): 55V; Features: Standard
footprint NXP SOT-223
pins: 1 G, 2 D, 3 S

## BUK98150-55/CUF
designator IC?
MOSFET N-CH 55V 5.5A SOT223; Manufacturer: NXP USA Inc.; Rds On (Max) at Id, Vgs: 150 mOhm @ 5A, 5V; Vgs(th) (Max) at Id: 10V; Input Capacitance (Ciss) at Vds: 330pF @ 25V; Current Continuous Drain: 5.5A (Tc); Part Number: BUK98150-55/CUF; PartId: 29633; Supplier 1: Digi-Key; Supplier Part Number 1: 568-12491-1-ND; ComponentLink1Description: Datasheet; ComponentLink1URL: http://www.nxp.com/documents/data_sheet/BUK98150-55.pdf; ComponentLink2Description: Digi-Key Listing; ComponentLink2URL: https://www.digikey.com/product-detail/en/nxp-usa-inc/BUK98150-55-CUF/568-12491-1-ND/5361193; Price: 0.63; Type: N-Channel; Device Package: TO-261-4, TO-261AA; Drain to Source Voltage (Vdss): 55V
footprint NXP SOT-223
pins: 1 G, 2 D, 3 S, 4 D

## BUK98150-55A,135
designator IC?
MOSFET N-CH 55V 5.5A SOT-223; Manufacturer: NXP Semiconductors; Rds On (Max) at Id, Vgs: 137 mOhm @ 5A, 10V; Vgs(th) (Max) at Id: 2V @ 1mA; Gate Charge (Qg): 5.3nC @ 5V; Input Capacitance (Ciss) at Vds: 320pF @ 25V; Power - Max: 8W; Current Continuous Drain: 5.5A (Tc); Part Number: BUK98150-55A,135; PartId: 8088; Supplier 1: Digi-Key; Supplier Part Number 1: 568-8212-2-ND; ComponentLink1Description: Datasheet; ComponentLink1URL: http://www.nxp.com/documents/data_sheet/BUK98150-55A.pdf; ComponentLink2Description: Digi-Key Listing; ComponentLink2URL: http://www.digikey.com/product-detail/en/BUK98150-55A,135/568-8212-2-ND/1163635; Price: 0.1719; Type: MOSFET N-Channel, Metal Oxide; Device Package: TO-261-4, TO-261AA; Drain to Source Voltage (Vdss): 55V; Features: Logic Level Gate
footprint NXP SOT-223
pins: 1 G, 2 D, 3 S

## BUK98150-55A/CUF
designator IC?
MOSFET N-CH 55V 5.5A SOT223; Manufacturer: NXP USA Inc.; Rds On (Max) at Id, Vgs: 137 mOhm @ 5A, 10V; Vgs(th) (Max) at Id: 15V; Gate Charge (Qg): 5.3nC @ 5V; Input Capacitance (Ciss) at Vds: 320pF @ 25V; Current Continuous Drain: 5.5A (Tc); Part Number: BUK98150-55A/CUF; PartId: 29643; Supplier 1: Digi-Key; Supplier Part Number 1: 568-12492-1-ND; ComponentLink1Description: Datasheet; ComponentLink1URL: http://www.nxp.com/documents/data_sheet/BUK98150-55A.pdf; ComponentLink2Description: Digi-Key Listing; ComponentLink2URL: https://www.digikey.com/product-detail/en/nxp-usa-inc/BUK98150-55A-CUF/568-12492-1-ND/5361194; Price: 0.66; Type: N-Channel; Device Package: TO-261-4, TO-261AA; Drain to Source Voltage (Vdss): 55V
footprint NXP SOT-223
pins: 1 G, 2 D, 3 S, 4 D

## BUK98180-100A/CUX
designator IC?
MOSFET N-CH 100V 4.6A SOT223; Manufacturer: NXP USA Inc.; Rds On (Max) at Id, Vgs: 173 mOhm @ 5A, 10V; Vgs(th) (Max) at Id: 10V; Input Capacitance (Ciss) at Vds: 619pF @ 25V; Current Continuous Drain: 4.6A (Tc); Part Number: BUK98180-100A/CUX; PartId: 29644; Supplier 1: Digi-Key; Supplier Part Number 1: 568-12493-1-ND; ComponentLink1Description: Datasheet; ComponentLink1URL: http://www.nxp.com/documents/data_sheet/BUK98180-100A.pdf; ComponentLink2Description: Digi-Key Listing; ComponentLink2URL: https://www.digikey.com/product-detail/en/nxp-usa-inc/BUK98180-100A-CUX/568-12493-1-ND/5361195; Price: 0.67; Type: N-Channel; Device Package: TO-261-4, TO-261AA; Drain to Source Voltage (Vdss): 100V
footprint NXP SOT-223
pins: 1 G, 2 D, 3 S, 4 D

## BVSS138LT1G
designator IC?
MOSFET N-CH 50V 200MA SOT-23-3; Manufacturer: ON Semiconductor; Rds On (Max) at Id, Vgs: 3.5 Ohm @ 200mA, 5V; Vgs(th) (Max) at Id: 20V; Input Capacitance (Ciss) at Vds: 50pF @ 25V; Current Continuous Drain: 200mA (Ta); Part Number: BVSS138LT1G; PartId: 29628; Supplier 1: Digi-Key; Supplier Part Number 1: BVSS138LT1GOSCT-ND; ComponentLink1Description: Datasheet; ComponentLink1URL: http://www.onsemi.com/pub_link/Collateral/BSS138LT1-D.PDF; ComponentLink2Description: Digi-Key Listing; ComponentLink2URL: https://www.digikey.com/product-detail/en/on-semiconductor/BVSS138LT1G/BVSS138LT1GOSCT-ND/5213197; Price: 0.53; Type: N-Channel; Device Package: TO-236-3, SC-59, SOT-23-3; Drain to Source Voltage (Vdss): 50V
footprint ON SEMI SOT-23-3
pins: 1 G, 2 D, 3 S

## CPH3455-TL-W
designator IC?
MOSFET N-CH 35V 3A CPH3; Manufacturer: ON Semiconductor; Rds On (Max) at Id, Vgs: 104 mOhm @ 1.5A, 10V; Vgs(th) (Max) at Id: 20V; Gate Charge (Qg): 4nC @ 10V; Input Capacitance (Ciss) at Vds: 186pF @ 20V; Current Continuous Drain: 3A (Ta); Part Number: CPH3455-TL-W; PartId: 29629; Supplier 1: Digi-Key; Supplier Part Number 1: CPH3455-TL-WOSCT-ND; ComponentLink1Description: Datasheet; ComponentLink1URL: http://www.onsemi.com/pub_link/Collateral/CPH3455-D.PDF; ComponentLink2Description: Digi-Key Listing; ComponentLink2URL: https://www.digikey.com/product-detail/en/on-semiconductor/CPH3455-TL-W/CPH3455-TL-WOSCT-ND/5761667; Price: 0.72; Type: N-Channel; Device Package: TO-236-3, SC-59, SOT-23-3; Drain to Source Voltage (Vdss): 35V
footprint ON SEMI SOT-23-3
pins: 1 G, 2 D, 3 S

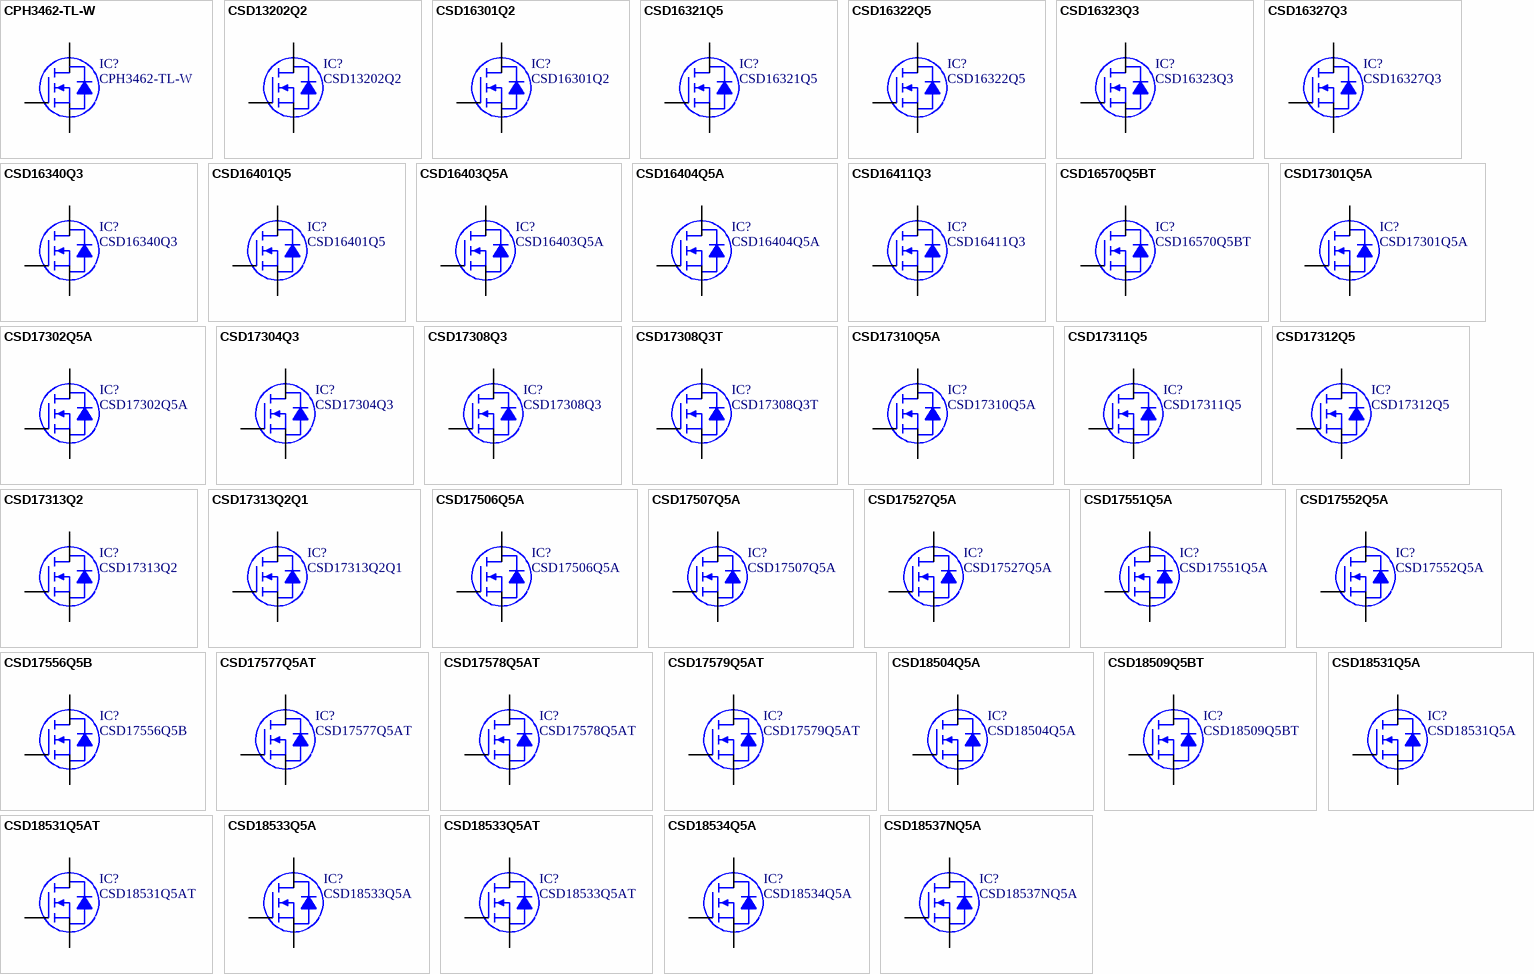
[diagram p5: symbols CPH3462-TL-W to CSD18537NQ5A]

## CPH3462-TL-W
designator IC?
MOSFET N-CH 100V 1A CPH3; Manufacturer: ON Semiconductor; Rds On (Max) at Id, Vgs: 785 mOhm @ 1A, 10V; Vgs(th) (Max) at Id: 20V; Gate Charge (Qg): 3.4nC @ 10V; Input Capacitance (Ciss) at Vds: 155pF @ 20V; Current Continuous Drain: 1A (Ta); Part Number: CPH3462-TL-W; PartId: 29623; Supplier 1: Digi-Key; Supplier Part Number 1: CPH3462-TL-WOSCT-ND; ComponentLink1Description: Datasheet; ComponentLink1URL: http://www.onsemi.com/pub_link/Collateral/ENA2322-D.PDF; ComponentLink2Description: Digi-Key Listing; ComponentLink2URL: https://www.digikey.com/product-detail/en/on-semiconductor/CPH3462-TL-W/CPH3462-TL-WOSCT-ND/5801795; Price: 0.66; Type: N-Channel; Device Package: TO-236-3, SC-59, SOT-23-3; Drain to Source Voltage (Vdss): 100V
footprint ON SEMI SOT-23-3
pins: 1 G, 2 D, 3 S

## CSD13202Q2
designator IC?
MOSFET N-CH 12V 76A 6SON; Manufacturer: Texas Instruments; Rds On (Max) at Id, Vgs: 9.3 mOhm @ 5A, 4.5V; Vgs(th) (Max) at Id: 1.1V @ 250uA; Gate Charge (Qg): 6.6nC @ 4.5V; Input Capacitance (Ciss) at Vds: 997pF @ 6V; Power - Max: 2.7W; Current Continuous Drain: 22A (Ta); Part Number: CSD13202Q2; PartId: 8130; Supplier 1: Digi-Key; Supplier Part Number 1: 296-38911-2-ND; ComponentLink1Description: Datasheet; ComponentLink1URL: http://www.ti.com/lit/ds/symlink/csd13202q2.pdf; ComponentLink2Description: Digi-Key Listing; ComponentLink2URL: http://www.digikey.com/product-detail/en/CSD13202Q2/296-38911-2-ND/4437971; Price: 0.1712; Type: MOSFET N-Channel, Metal Oxide; Device Package: 6-VDFN Exposed Pad; Drain to Source Voltage (Vdss): 12V; Features: Standard
footprint TI SON-6 Q2
pins: 1 D, 1 5, 1 6, 1 8, 2 D, 3 G, 4 S, 7 S

## CSD16301Q2
designator IC?
MOSFET N-CH 25V 6-SON; Manufacturer: Texas Instruments; Rds On (Max) at Id, Vgs: 24 mOhm @ 4A, 8V; Vgs(th) (Max) at Id: 1.55V @ 250uA; Gate Charge (Qg): 2.8nC @ 4.5V; Input Capacitance (Ciss) at Vds: 340pF @ 12.5V; Power - Max: 2.3W; Current Continuous Drain: 5A (Tc); Part Number: CSD16301Q2; PartId: 8129; Supplier 1: Digi-Key; Supplier Part Number 1: 296-25260-2-ND; ComponentLink1Description: Datasheet; ComponentLink1URL: http://www.ti.com/lit/ds/symlink/csd16301q2.pdf; ComponentLink2Description: Digi-Key Listing; ComponentLink2URL: http://www.digikey.com/product-detail/en/CSD16301Q2/296-25260-2-ND/2175533; Price: 0.1725; Type: MOSFET N-Channel, Metal Oxide; Device Package: 6-SMD, Flat Leads; Drain to Source Voltage (Vdss): 25V; Features: Standard
footprint TI SON-6 Q2
pins: 1 D, 1 5, 1 6, 1 8, 2 D, 3 G, 4 S, 7 S

## CSD16321Q5
designator IC?
MOSFET N-CH 25V 100A 8-SON; Manufacturer: Texas Instruments; Rds On (Max) at Id, Vgs: 2.4 mOhm @ 25A, 8V; Vgs(th) (Max) at Id: 1.4V @ 250uA; Gate Charge (Qg): 19nC @ 4.5V; Input Capacitance (Ciss) at Vds: 3100pF @ 12.5V; Power - Max: 3.1W; Current Continuous Drain: 31A (Ta), 100A (Tc); Part Number: CSD16321Q5; PartId: 8132; Supplier 1: Digi-Key; Supplier Part Number 1: 296-24517-2-ND; ComponentLink1Description: Datasheet; ComponentLink1URL: http://www.ti.com/lit/ds/symlink/csd16321q5.pdf; ComponentLink2Description: Digi-Key Listing; ComponentLink2URL: http://www.digikey.com/product-detail/en/CSD16321Q5/296-24517-2-ND/2062290; Price: 0.7312; Type: MOSFET N-Channel, Metal Oxide; Device Package: 8-TDFN Exposed Pad; Drain to Source Voltage (Vdss): 25V; Features: Standard
footprint TI 8-TDFN Q5
pins: 1 S, 2 S, 3 S, 4 G, 5 D, 6 D, 7 D, 8 D

## CSD16322Q5
designator IC?
MOSFET N-CH 25V 5X6 8SON; Manufacturer: Texas Instruments; Rds On (Max) at Id, Vgs: 5 mOhm @ 20A, 8V; Vgs(th) (Max) at Id: 1.4V @ 250uA; Gate Charge (Qg): 9.7nC @ 4.5V; Input Capacitance (Ciss) at Vds: 1365pF @ 12.5V; Power - Max: 3.1W; Current Continuous Drain: 21A (Ta), 97A (Tc); Part Number: CSD16322Q5; PartId: 8133; Supplier 1: Digi-Key; Supplier Part Number 1: 296-25112-2-ND; ComponentLink1Description: Datasheet; ComponentLink1URL: http://www.ti.com/lit/ds/symlink/csd16322q5.pdf; ComponentLink2Description: Digi-Key Listing; ComponentLink2URL: http://www.digikey.com/product-detail/en/CSD16322Q5/296-25112-2-ND/2138514; Price: 0.4575; Type: MOSFET N-Channel, Metal Oxide; Device Package: 8-TDFN Exposed Pad; Drain to Source Voltage (Vdss): 25V; Features: Standard
footprint TI 8-TDFN Q5
pins: 1 S, 2 S, 3 S, 4 G, 5 D, 6 D, 7 D, 8 D

## CSD16323Q3
designator IC?
MOSFET N-CH 25V 3.3X3.3 8-SON; Manufacturer: Texas Instruments; Rds On (Max) at Id, Vgs: 4.5 mOhm @ 24A, 8V; Vgs(th) (Max) at Id: 1.4V @ 250uA; Gate Charge (Qg): 8.4nC @ 4.5V; Input Capacitance (Ciss) at Vds: 1300pF @ 12.5V; Power - Max: 3W; Current Continuous Drain: 21A (Ta), 60A (Tc); Part Number: CSD16323Q3; PartId: 18046; Supplier 1: Digi-Key; Supplier Part Number 1: 296-24522-2-ND; ComponentLink1Description: Datasheet; ComponentLink1URL: http://www.ti.com/lit/ds/symlink/csd16323q3.pdf; ComponentLink2Description: Digi-Key Listing; ComponentLink2URL: https://www.digikey.com/product-detail/en/texas-instruments/CSD16323Q3/296-24522-2-ND/2063071; Price: 0.6169; Type: MOSFET N-Channel, Metal Oxide; Device Package: 8-PowerTDFN; Drain to Source Voltage (Vdss): 25V; Features: Logic Level Gate
footprint TI SON-8 Q3
pins: 1 S, 2 S, 3 S, 4 G, 5 D, 6 D, 7 D, 8 D

## CSD16327Q3
designator IC?
MOSFET N-CH 25V 60A 8SON; Manufacturer: Texas Instruments; Rds On (Max) at Id, Vgs: 4 mOhm @ 24A, 8V; Vgs(th) (Max) at Id: 1.4V @ 250uA; Gate Charge (Qg): 8.4nC @ 4.5V; Input Capacitance (Ciss) at Vds: 1300pF @ 12.5V; Power - Max: 3W; Current Continuous Drain: 60A (Tc); Part Number: CSD16327Q3; PartId: 18045; Supplier 1: Digi-Key; Supplier Part Number 1: 296-30138-2-ND; ComponentLink1Description: Datasheet; ComponentLink1URL: http://www.ti.com/lit/ds/symlink/csd16327q3.pdf; ComponentLink2Description: Digi-Key Listing; ComponentLink2URL: https://www.digikey.com/product-detail/en/texas-instruments/CSD16327Q3/296-30138-2-ND/2809518; Price: 0.6131; Type: MOSFET N-Channel, Metal Oxide; Device Package: 8-PowerTDFN; Drain to Source Voltage (Vdss): 25V; Features: Logic Level Gate
footprint TI SON-8 Q3
pins: 1 S, 2 S, 3 S, 4 G, 5 D, 6 D, 7 D, 8 D

## CSD16340Q3
designator IC?
MOSFET N-CH 25V 60A 8SON; Manufacturer: Texas Instruments; Rds On (Max) at Id, Vgs: 4.5 mOhm @ 20A, 8V; Vgs(th) (Max) at Id: 1.1V @ 250uA; Gate Charge (Qg): 9.2nC @ 4.5V; Input Capacitance (Ciss) at Vds: 1350pF @ 12.5V; Power - Max: 3W; Current Continuous Drain: 21A (Ta), 60A (Tc); Part Number: CSD16340Q3; PartId: 18047; Supplier 1: Digi-Key; Supplier Part Number 1: 296-25646-2-ND; ComponentLink1Description: Datasheet; ComponentLink1URL: http://www.ti.com/lit/ds/symlink/csd16340q3.pdf; ComponentLink2Description: Digi-Key Listing; ComponentLink2URL: https://www.digikey.com/product-detail/en/texas-instruments/CSD16340Q3/296-25646-2-ND/2202562; Price: 0.6338; Type: MOSFET N-Channel, Metal Oxide; Device Package: 8-PowerTDFN; Drain to Source Voltage (Vdss): 25V; Features: Logic Level Gate
footprint TI SON-8 Q3
pins: 1 S, 2 S, 3 S, 4 G, 5 D, 6 D, 7 D, 8 D

## CSD16401Q5
designator IC?
MOSFET N-CH 25V 100A 8-SON; Manufacturer: Texas Instruments; Rds On (Max) at Id, Vgs: 1.6 mOhm @ 40A, 10V; Vgs(th) (Max) at Id: 1.9V @ 250uA; Gate Charge (Qg): 29nC @ 4.5V; Input Capacitance (Ciss) at Vds: 4100pF @ 12.5V; Power - Max: 3.1W; Current Continuous Drain: 38A (Ta), 100A (Tc); Part Number: CSD16401Q5; PartId: 8134; Supplier 1: Digi-Key; Supplier Part Number 1: 296-24525-2-ND; ComponentLink1Description: Datasheet; ComponentLink1URL: http://www.ti.com/lit/ds/symlink/csd16401q5.pdf; ComponentLink2Description: Digi-Key Listing; ComponentLink2URL: http://www.digikey.com/product-detail/en/CSD16401Q5/296-24525-2-ND/2063189; Price: 1.0687; Type: MOSFET N-Channel, Metal Oxide; Device Package: 8-TDFN Exposed Pad; Drain to Source Voltage (Vdss): 25V; Features: Standard
footprint TI 8-TDFN Q5
pins: 1 S, 2 S, 3 S, 4 G, 5 D, 6 D, 7 D, 8 D

## CSD16403Q5A
designator IC?
MOSFET N-CH 25V 100A 8-SON; Manufacturer: Texas Instruments; Rds On (Max) at Id, Vgs: 2.8 mOhm @ 20A, 10V; Vgs(th) (Max) at Id: 1.9V @ 250uA; Gate Charge (Qg): 18nC @ 4.5V; Input Capacitance (Ciss) at Vds: 2660pF @ 12.5V; Power - Max: 3.1W; Current Continuous Drain: 28A (Ta), 100A (Tc); Part Number: CSD16403Q5A; PartId: 18041; Supplier 1: Digi-Key; Supplier Part Number 1: 296-24249-2-ND; ComponentLink1Description: Datasheet; ComponentLink1URL: http://www.ti.com/lit/ds/symlink/csd16403q5a.pdf; ComponentLink2Description: Digi-Key Listing; ComponentLink2URL: https://www.digikey.com/product-detail/en/texas-instruments/CSD16403Q5A/296-24249-2-ND/2038304; Price: 0.978; Type: MOSFET N-Channel, Metal Oxide; Device Package: 8-PowerTDFN; Drain to Source Voltage (Vdss): 25V; Features: Standard
footprint TI 8-TDFN Q5A
pins: 1 S, 2 S, 3 S, 4 G, 5 D, 6 D, 7 D, 8 D

## CSD16404Q5A
designator IC?
MOSFET N-CH 25V 81A 8-SON; Manufacturer: Texas Instruments; Rds On (Max) at Id, Vgs: 5.1 mOhm @ 20A, 10V; Vgs(th) (Max) at Id: 2.1V @ 250uA; Gate Charge (Qg): 8.5nC @ 4.5V; Input Capacitance (Ciss) at Vds: 1220pF @ 12.5V; Power - Max: 3W; Current Continuous Drain: 21A (Ta), 81A (Tc); Part Number: CSD16404Q5A; PartId: 18042; Supplier 1: Digi-Key; Supplier Part Number 1: 296-24250-2-ND; ComponentLink1Description: Datasheet; ComponentLink1URL: http://www.ti.com/lit/ds/symlink/csd16404q5a.pdf; ComponentLink2Description: Digi-Key Listing; ComponentLink2URL: https://www.digikey.com/product-detail/en/texas-instruments/CSD16404Q5A/296-24250-2-ND/2038305; Price: 0.5849; Type: MOSFET N-Channel, Metal Oxide; Device Package: 8-PowerTDFN; Drain to Source Voltage (Vdss): 25V; Features: Standard
footprint TI 8-TDFN Q5A
pins: 1 S, 2 S, 3 S, 4 G, 5 D, 6 D, 7 D, 8 D

## CSD16411Q3
designator IC?
MOSFET N-CH 25V 56A 8-SON; Manufacturer: Texas Instruments; Rds On (Max) at Id, Vgs: 10 mOhm @ 10A, 10V; Vgs(th) (Max) at Id: 2.3V @ 250uA; Gate Charge (Qg): 3.8nC @ 4.5V; Input Capacitance (Ciss) at Vds: 570pF @ 12.5V; Power - Max: 2.7W; Current Continuous Drain: 14A (Ta), 56A (Tc); Part Number: CSD16411Q3; PartId: 18048; Supplier 1: Digi-Key; Supplier Part Number 1: 296-24255-2-ND; ComponentLink1Description: Datasheet; ComponentLink1URL: http://www.ti.com/lit/ds/symlink/csd16411q3.pdf; ComponentLink2Description: Digi-Key Listing; ComponentLink2URL: https://www.digikey.com/product-detail/en/texas-instruments/CSD16411Q3/296-24255-2-ND/2038310; Price: 0.4608; Type: MOSFET N-Channel, Metal Oxide; Device Package: 8-PowerTDFN; Drain to Source Voltage (Vdss): 25V; Features: Standard
footprint TI SON-8 Q3
pins: 1 S, 2 S, 3 S, 4 G, 5 D, 6 D, 7 D, 8 D

## CSD16570Q5BT
designator IC?
MOSFET N-CH 25V 100A 8VSON; Manufacturer: Texas Instruments; Rds On (Max) at Id, Vgs: 0.59 mOhm @ 50A, 10V; Vgs(th) (Max) at Id: 1.9V @ 250uA; Gate Charge (Qg): 250nC @ 10V; Input Capacitance (Ciss) at Vds: 14000pF @ 12V; Power - Max: 3.2W; Current Continuous Drain: 100A (Ta); Part Number: CSD16570Q5BT; PartId: 7971; Supplier 1: Digi-Key; Supplier Part Number 1: 296-38335-2-ND; ComponentLink1Description: Datasheet; ComponentLink1URL: http://www.ti.com/lit/ds/symlink/csd16570q5b.pdf; ComponentLink2Description: Digi-Key Listing; ComponentLink2URL: http://www.digikey.com/product-detail/en/CSD16570Q5BT/296-38335-2-ND/4968291; Price: 2.0646; Type: MOSFET N-Channel, Metal Oxide; Device Package: 8-PowerTDFN; Drain to Source Voltage (Vdss): 25V; Features: Standard
footprint TI VSON-8 Q5B
pins: 1 S, 2 S, 3 S, 4 G, 5 D, 6 D, 7 D, 8 D

## CSD17301Q5A
designator IC?
MOSFET N-CH 30V 28A 8SON; Manufacturer: Texas Instruments; Rds On (Max) at Id, Vgs: 2.6 mOhm @ 25A, 8V; Vgs(th) (Max) at Id: 1.55V @ 250uA; Gate Charge (Qg): 25nC @ 4.5V; Input Capacitance (Ciss) at Vds: 3480pF @ 15V; Power - Max: 3.2W; Current Continuous Drain: 28A (Ta), 100A (Tc); Part Number: CSD17301Q5A; PartId: 18033; Supplier 1: Digi-Key; Supplier Part Number 1: 296-25795-2-ND; ComponentLink1Description: Datasheet; ComponentLink1URL: http://www.ti.com/lit/ds/symlink/csd17301q5a.pdf; ComponentLink2Description: Digi-Key Listing; ComponentLink2URL: https://www.digikey.com/product-detail/en/texas-instruments/CSD17301Q5A/296-25795-2-ND/2224840; Price: 0.9743; Type: MOSFET N-Channel, Metal Oxide; Device Package: 8-PowerTDFN; Drain to Source Voltage (Vdss): 30V; Features: Logic Level Gate
footprint TI 8-TDFN Q5A
pins: 1 S, 2 S, 3 S, 4 G, 5 D, 6 D, 7 D, 8 D

## CSD17302Q5A
designator IC?
MOSFET N-CH 30V 87A 8SON; Manufacturer: Texas Instruments; Rds On (Max) at Id, Vgs: 7.9 mOhm @ 14A, 8V; Vgs(th) (Max) at Id: 1.7V @ 250uA; Gate Charge (Qg): 7nC @ 4.5V; Input Capacitance (Ciss) at Vds: 950pF @ 15V; Power - Max: 3W; Current Continuous Drain: 16A (Ta), 87A (Tc); Part Number: CSD17302Q5A; PartId: 18036; Supplier 1: Digi-Key; Supplier Part Number 1: 296-25854-2-ND; ComponentLink1Description: Datasheet; ComponentLink1URL: http://www.ti.com/lit/ds/symlink/csd17302q5a.pdf; ComponentLink2Description: Digi-Key Listing; ComponentLink2URL: https://www.digikey.com/product-detail/en/texas-instruments/CSD17302Q5A/296-25854-2-ND/2237239; Price: 0.5642; Type: MOSFET N-Channel, Metal Oxide; Device Package: 8-PowerTDFN; Drain to Source Voltage (Vdss): 30V; Features: Standard
footprint TI 8-TDFN Q5A
pins: 1 S, 2 S, 3 S, 4 G, 5 D, 6 D, 7 D, 8 D

## CSD17304Q3
designator IC?
MOSFET N-CH 30V 56A 8SON; Manufacturer: Texas Instruments; Rds On (Max) at Id, Vgs: 7.5 mOhm @ 17A, 8V; Vgs(th) (Max) at Id: 1.8V @ 250uA; Gate Charge (Qg): 6.6nC @ 4.5V; Input Capacitance (Ciss) at Vds: 955pF @ 15V; Power - Max: 2.7W; Current Continuous Drain: 15A (Ta), 56A (Tc); Part Number: CSD17304Q3; PartId: 18044; Supplier 1: Digi-Key; Supplier Part Number 1: 296-27509-2-ND; ComponentLink1Description: Datasheet; ComponentLink1URL: http://www.ti.com/lit/ds/symlink/csd17304q3.pdf; ComponentLink2Description: Digi-Key Listing; ComponentLink2URL: https://www.digikey.com/product-detail/en/texas-instruments/CSD17304Q3/296-27509-2-ND/2319772; Price: 0.4871; Type: MOSFET N-Channel, Metal Oxide; Device Package: 8-PowerTDFN; Drain to Source Voltage (Vdss): 30V; Features: Logic Level Gate
footprint TI SON-8 Q3
pins: 1 S, 2 S, 3 S, 4 G, 5 D, 6 D, 7 D, 8 D